# Altium schematic symbol library HD3SS3220.SchLib: 1 symbol
Pins are listed as number, name and electrical type; pins without a type are passive.

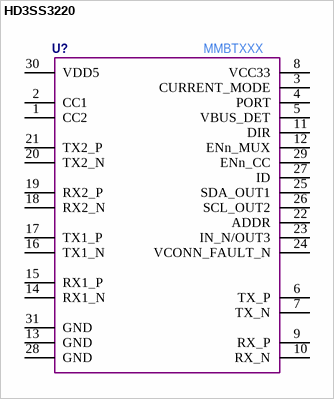
[diagram p0: symbol HD3SS3220]

## HD3SS3220
designator U?  Manufacturer Part Number: MMBTXXX  (hidden comment: *)
pins: 1 CC2, 2 CC1, 3 CURRENT_MODE, 4 PORT, 5 VBUS_DET, 6 TX_P, 7 TX_N, 8 VCC33, 9 RX_P, 10 RX_N, 11 DIR, 12 ENn_MUX, 13 GND, 14 RX1_N, 15 RX1_P, 16 TX1_N, 17 TX1_P, 18 RX2_N, 19 RX2_P, 20 TX2_N, 21 TX2_P, 22 ADDR, 23 IN_N/OUT3, 24 VCONN_FAULT_N, 25 SDA_OUT1, 26 SCL_OUT2, 27 ID, 28 GND, 29 ENn_CC, 30 VDD5, 31 GND